# EAGLE library part PUSHBUTTON (library Airbeam)
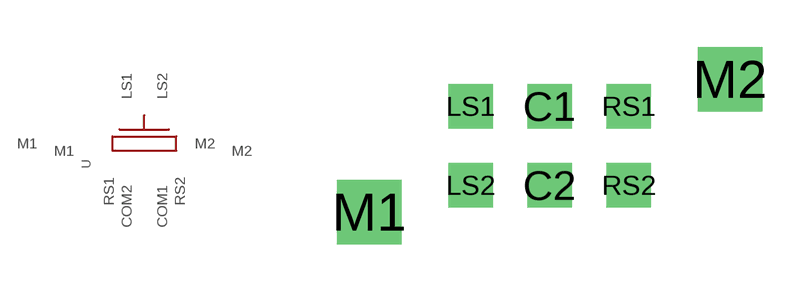
[diagram p3: symbol with the pads of PUSHBUTTON; footprint PUSHBUTTON]

Designator prefix -

## PUSHBUTTON (PARTNO: LC2259EENP)  [PUSHBUTTON]
C1  COM1
C2  COM2
LS1  LS1
LS2  LS2
M1  M1
M2  M2
RS1  RS1
RS2  RS2

## Footprint PUSHBUTTON (pad centres in mm)
drill 0.9 square: C1 0,1.25; C2 0,-1.25; LS1 -2.5,1.25; LS2 -2.5,-1.25; RS1 2.5,1.25; RS2 2.5,-1.25
drill 1.35 square: M1 -5.7,-2.1; M2 5.7,2.1